# Altium footprint library OpBots.PcbLib: 39 footprints (part 2 of 3)
Each footprint in its own frame and in the unit in brackets; x right, y up, seen from the top. Pads: shape width x height; smd on the part's side, far side on the other; paste and mask are expansions set on the pad; w line width, h text height; cw(c..) or ccw(c..) is an arc to the next point about the centre after c.
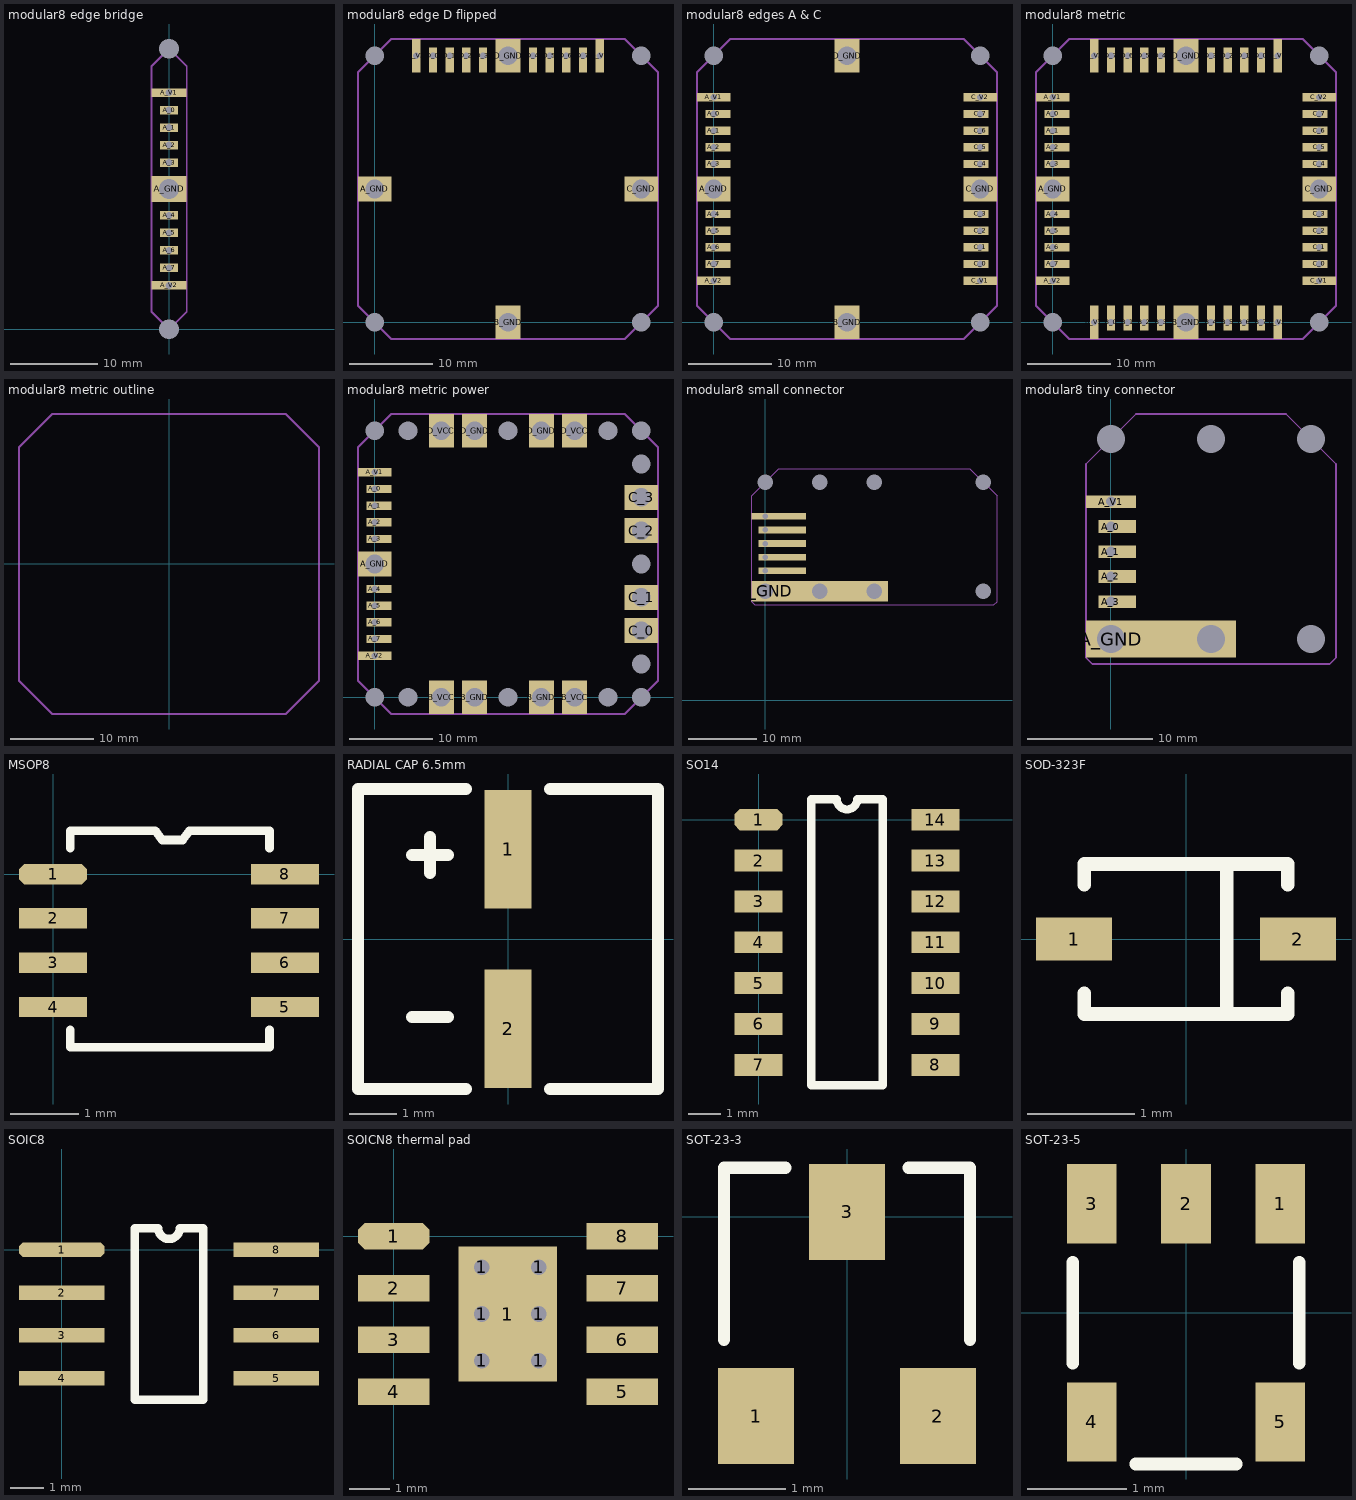
[diagram p1: the footprints below, top view; thin cyan lines are the x and y axes]

## modular8 edge bridge [mm]
pads (13):
  rect 0x0 hole 2.25 unplated copper offset 0.5,0: 999(0,0) 999(0,32)
  rect 2x1 hole 0.8: A_0(0,25) A_1(0,23) A_2(0,21) A_3(0,19) A_4(0,13) A_5(0,11) A_6(0,9) A_7(0,7)
  rect 4x3 hole 2.25: A_GND(0,16)
  rect 4x1 hole 0.8: A_V1(0,27) A_V2(0,5)
Mechanical 1:
  lines w0.152: 0,0 2,2 2,30 0,32
  lines w0.254: 0,0 -2,2 -2,30 0,32
3D body: height 0, standoff 0, extent -2.127,-0.127 2.076,32.127

## modular8 edge D flipped [mm]
pads (18):
  rect 0x0 hole 2.25 unplated copper offset 0.5,0: 999(0,0) 999(0,32) 999(31.976,32) 999(32,0)
  rect 4x3 hole 2.25: A_GND(0,16) C_GND(32,16)
  rect 3x4 hole 2.25: B_GND(16,0) D_GND(16,32)
  rect 1x3 hole 0.8 copper offset 0,-0.5: D_0(7,32) D_1(9,32) D_2(11,32) D_3(13,32) D_4(19,32) D_5(21,32) D_6(23,32) D_7(25,32)
  rect 1x4 hole 0.8: D_V1(27,32) D_V2(5,32)
Top Solder:
  rectangle: -2,2 2,34
  rectangle: -2,-2 34,2
  rectangle: 30,2 34,34
  rectangle: 2,30 30,34
Bottom Solder:
  rectangle: -2,-2 34,2
  rectangle: 30,2 34,34
  rectangle: -2,30 30,34
  rectangle: -2,2 2,30
Mechanical 1:
  lines w0.254: -2,2 2,-2 30,-2 34,2 34,30 30,34 2,34 -2,30 -2,2
3D body: height 0, standoff 0, extent -2.001,-2.001 34.001,34.001

## modular8 edges A & C [mm]
pads (28):
  rect 0x0 hole 2.25 unplated copper offset 0.5,0: 999(0,0) 999(0,32) 999(31.976,32) 999(32,0)
  rect 3x1 hole 0.8 copper offset 0.5,0: A_0(0,25) A_1(0,23) A_2(0,21) A_3(0,19) A_4(0,13) A_5(0,11) A_6(0,9) A_7(0,7)
  rect 4x3 hole 2.25: A_GND(0,16) C_GND(32,16)
  rect 4x1 hole 0.8: A_V1(0,27) A_V2(0,5) C_V1(32,5) C_V2(32,27)
  rect 3x4 hole 2.25: B_GND(16,0) D_GND(16,32)
  rect 3x1 hole 0.8 copper offset -0.5,0: C_0(32,7) C_1(32,9) C_2(32,11) C_3(32,13) C_4(32,19) C_5(32,21) C_6(32,23) C_7(32,25)
Top Solder:
  rectangle: -2,2 2,34
  rectangle: -2,-2 34,2
  rectangle: 30,2 34,34
  rectangle: 2,30 30,34
Bottom Solder:
  rectangle: -2,-2 34,2
  rectangle: 30,2 34,34
  rectangle: -2,30 30,34
  rectangle: -2,2 2,30
Mechanical 1:
  lines w0.254: -2,2 2,-2 30,-2 34,2 34,30 30,34 2,34 -2,30 -2,2
3D body: height 0, standoff 0, extent -2.001,-2.001 34.001,34.001

## modular8 metric [mm]
pads (48):
  rect 0x0 hole 2.25 unplated copper offset 0.5,0: 999(0,0) 999(0,32) 999(31.976,32) 999(32,0)
  rect 3x1 hole 0.8 copper offset 0.5,0: A_0(0,25) A_1(0,23) A_2(0,21) A_3(0,19) A_4(0,13) A_5(0,11) A_6(0,9) A_7(0,7)
  rect 4x3 hole 2.25: A_GND(0,16) C_GND(32,16)
  rect 4x1 hole 0.8: A_V1(0,27) A_V2(0,5) C_V1(32,5) C_V2(32,27)
  rect 1x3 hole 0.8 copper offset 0,0.5: B_0(7,0) B_1(9,0) B_2(11,0) B_3(13,0) B_4(19,0) B_5(21,0) B_6(23,0) B_7(25,0)
  rect 3x4 hole 2.25: B_GND(16,0) D_GND(16,32)
  rect 1x4 hole 0.8: B_V1(5,0) B_V2(27,0) D_V1(27,32) D_V2(5,32)
  rect 3x1 hole 0.8 copper offset -0.5,0: C_0(32,7) C_1(32,9) C_2(32,11) C_3(32,13) C_4(32,19) C_5(32,21) C_6(32,23) C_7(32,25)
  rect 1x3 hole 0.8 copper offset 0,-0.5: D_0(25,32) D_1(23,32) D_2(21,32) D_3(19,32) D_4(13,32) D_5(11,32) D_6(9,32) D_7(7,32)
Top Solder:
  rectangle: -2,2 2,34
  rectangle: -2,-2 34,2
  rectangle: 30,2 34,34
  rectangle: 2,30 30,34
Bottom Solder:
  rectangle: -2,-2 34,2
  rectangle: 30,2 34,34
  rectangle: -2,30 30,34
  rectangle: -2,2 2,30
Mechanical 1:
  lines w0.254: -2,2 2,-2 30,-2 34,2 34,30 30,34 2,34 -2,30 -2,2
3D body: height 0, standoff 0, extent -2.001,-2.001 34.001,34.001

## modular8 metric outline [mm]
Mechanical 1:
  lines w0.254: -18,-14 -18,14 -14,18 14,18 18,14 18,-14 14,-18 -14,-18 -18,-14

## modular8 metric power [mm]
pads (36):
  rect 0x0 hole 2.25 unplated copper offset 0.5,0: 999(0,0) 999(0,32) 999(4,0) 999(4,31.976) 999(16,0.024) 999(16,31.976) 999(28,0.024) 999(28,31.976) 999(31.976,4) 999(31.976,32) 999(32,0) 999(32,16) 999(32,28)
  rect 3x1 hole 0.8 copper offset 0.5,0: A_0(0,25) A_1(0,23) A_2(0,21) A_3(0,19) A_4(0,13) A_5(0,11) A_6(0,9) A_7(0,7)
  rect 4x3 hole 2.25: A_GND(0,16) C_0(31.976,8) C_1(32,12) C_2(31.976,20) C_3(32,24)
  rect 4x1 hole 0.8: A_V1(0,27) A_V2(0,5)
  rect 3x4 hole 2.25: B_GND(12,0.024) B_GND(20,0.024) B_VCC(8,0.024) B_VCC(24,0.024) D_GND(12,32) D_GND(20,32) D_VCC(8,31.976) D_VCC(24,32)
Top Solder:
  rectangle: -2,2 2,34
  rectangle: -2,-2 30,2
  rectangle: 2,30 34,34
  rectangle: 30,-2 34,30
Bottom Solder:
  rectangle: -2,2 2,34
  rectangle: 2,30 34,34
  rectangle: 30,-2 34,30
  rectangle: -2,-2 30,2
Mechanical 1:
  lines w0.254: -2,2 2,-2 30,-2 34,2 34,30 30,34 2,34 -2,30 -2,2
3D body: height 0, standoff 0, extent -2.001,-2.001 34.001,34.001

## modular8 small connector [mm]
pads (13):
  rect 0x0 hole 2.25 unplated copper offset 0.5,0: 999(0,32) 999(8,16) 999(8,32) 999(16,16) 999(16,32) 999(32,16) 999(32,32)
  rect 7x1 hole 0.8 copper offset 2.5,0: A_0(0,25) A_1(0,23) A_2(0,21) A_3(0,19)
  rect 20x3 hole 2.25 unplated copper offset 8,0: A_GND(0,16)
  rect 8x1 hole 0.8 copper offset 2,0: A_V2(0,27)
Top Solder:
  rectangle: -2,14 2,34
Bottom Solder:
  rectangle: -2,14 2,34
Mechanical 1:
  lines w0.152: -2,14.5 -2,30 2,34 6,34 14,34 30,34 34,30 34,14.5 33.5,14 14,14 -1.5,14 -2,14.5
3D body: height 0, standoff 0, extent -2.001,-2.001 34.001,34.001

## modular8 tiny connector [mm]
pads (11):
  rect 0x0 hole 2.25 unplated copper offset 0.5,0: 999(0,32) 999(8,16) 999(8,32) 999(16,16) 999(16,32)
  rect 3x1 hole 0.8 copper offset 0.5,0: A_0(0,25) A_1(0,23) A_2(0,21) A_3(0,19)
  rect 12x3 hole 2.25 unplated copper offset 4,0: A_GND(0,16)
  rect 4x1 hole 0.8: A_V1(0,27)
Top Solder:
  rectangle: -2,14 2,34
Bottom Solder:
  rectangle: -2,14 2,34
Mechanical 1:
  lines w0.152: -2,14.5 -1.5,14 17.5,14 18,14.5 18,18 18,30 14,34 6,34 2,34 -2,30 -2,14.5
3D body: height 0, standoff 0, extent -2.001,-2.001 34.001,34.001

## MSOP8 [mm]
pads (8):
  oct 1x0.3 smd: 1(0,0)
  rect 1x0.3 smd: 2(0,-0.65) 3(0,-1.3) 4(0,-1.95) 5(3.4,-1.95) 6(3.4,-1.3) 7(3.4,-0.65) 8(3.4,0)
Top Overlay:
  lines w0.127: 0.254,-2.286 0.254,-2.54 3.175,-2.54 3.175,-2.286 ; 0.254,0.381 0.254,0.635 1.5,0.635 1.6,0.5 1.9,0.5 2,0.635 3.175,0.635 3.175,0.381
3D body: height 0, standoff 0, extent 0.178,-2.616 3.251,0.711
3D body: height 0, standoff 0, extent -0.508,-2.202 3.937,0.252

## RADIAL CAP 6.5mm [mm]
pads (2):
  rect 1x2.5 smd: 1(0,1.9) 2(0,-1.9)
Top Overlay:
  lines w0.254: -2.032,-1.651 -1.27,-1.651 ; -2.032,1.778 -1.27,1.778 ; -1.651,1.397 -1.651,2.159 ; -0.889,-3.175 -3.175,-3.175 -3.175,3.175 -0.889,3.175 ; 0.889,-3.175 3.175,-3.175 3.175,3.175 0.889,3.175
3D body: height 0, standoff 0, extent -3.302,-3.302 3.302,3.302

## SO14 [mm]
pads (14):
  oct 1.5x0.677 smd: 1(0,0)
  rect 1.5x0.677 smd: 2(0,-1.27) 3(0,-2.54) 4(0,-3.81) 5(0,-5.08) 6(0,-6.35) 7(0,-7.62) 8(5.5,-7.62) 9(5.5,-6.35) 10(5.5,-5.08) 11(5.5,-3.81) 12(5.5,-2.54) 13(5.5,-1.27) 14(5.5,0)
Top Overlay:
  lines w0.254: 1.639,-8.255 1.639,0.635 2.432,0.635 ccw(c2.75,0.635) 3.067,0.635 3.861,0.635 3.861,-8.255 1.639,-8.255

## SOD-323F [mm]
pads (2):
  rect 0.71x0.403 smd: 1(-1.045,0) 2(1.045,0)
Top Overlay:
  lines w0.127: -0.95,-0.508 -0.95,-0.7 0.95,-0.7 0.95,-0.508 ; -0.95,0.508 -0.95,0.7 0.95,0.7 0.95,0.508 ; 0.381,-0.7 0.381,0.7
3D body: height 0, standoff 0, extent -1.396,-0.699 1.396,0.699

## SOIC8 [mil]
pads (8):
  oct 100x17 smd: 1(0,0)
  rect 100x17 smd: 2(0,-50) 3(0,-100) 4(0,-150) 5(250,-150) 6(250,-100) 7(250,-50) 8(250,0)
Top Overlay:
  lines w10: 85,-175 165,-175 165,25 137.5,25 cw(c125,25) 112.5,25 85,25 85,-175

## SOICN8 thermal pad [mil]
pads (15):
  oct 68.9x25.59 smd: 1(0,0)
  round 22 hole 15 unplated: 1(85,-120) 1(85,-75) 1(85,-30) 1(140,-120) 1(140,-75) 1(140,-30)
  rect 95x130 smd: 1(110,-75)
  rect 68.9x25.59 smd: 2(0,-50) 3(0,-100) 4(0,-150) 5(220.47,-150) 6(220.47,-100) 7(220.47,-50) 8(220.47,0)
3D body: height 0, standoff 0, extent -38.45,-166.8 258.92,16.8

## SOT-23-3 [mil]
height 45
pads (3):
  rect 31x39 smd: 1(-37,-81) 2(37,-81) 3(0,2)
Top Overlay:
  lines w5: -50,-50 -50,20 -25,20 ; 25,20 50,20 50,-50
3D body: height 45, standoff 0, extent -56.5,-105 56.5,25

## SOT-23-5 [mm]
height 1.45
pads (5):
  rect 0.5x0.8 smd: 1(0.95,1.1) 2(0,1.1) 3(-0.95,1.1) 4(-0.95,-1.1) 5(0.95,-1.1)
Top Overlay:
  lines w0.127: -1.143,-0.508 -1.143,0.508 ; -0.508,-1.524 0.508,-1.524 ; 1.143,-0.508 1.143,0.508
3D body: height 1.45, standoff 0, extent -1.302,-1.602 1.302,1.602